# Altium schematic symbol library C0603C475K8PACTU.SchLib: 1 symbol
Pins are listed as number, name and electrical type; pins without a type are passive.

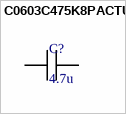
[diagram p0: symbol C0603C475K8PACTU]

## C0603C475K8PACTU
designator C?, comment 4.7u
C0603C475K8PACTU 4.7uF 4.7 uF, 10%, 10 VDC, X5R; Manufacturer_Part_Number: C0603C475K8PACTU
footprint CAPC17595_87N_KEM
pins: 1, 2